# Altium footprint library PcbLib.PcbLib: 34 footprints (part 1 of 3)
Each footprint in its own frame and in the unit in brackets; x right, y up, seen from the top. Pads: shape width x height; smd on the part's side, far side on the other; paste and mask are expansions set on the pad; w line width, h text height; cw(c..) or ccw(c..) is an arc to the next point about the centre after c.
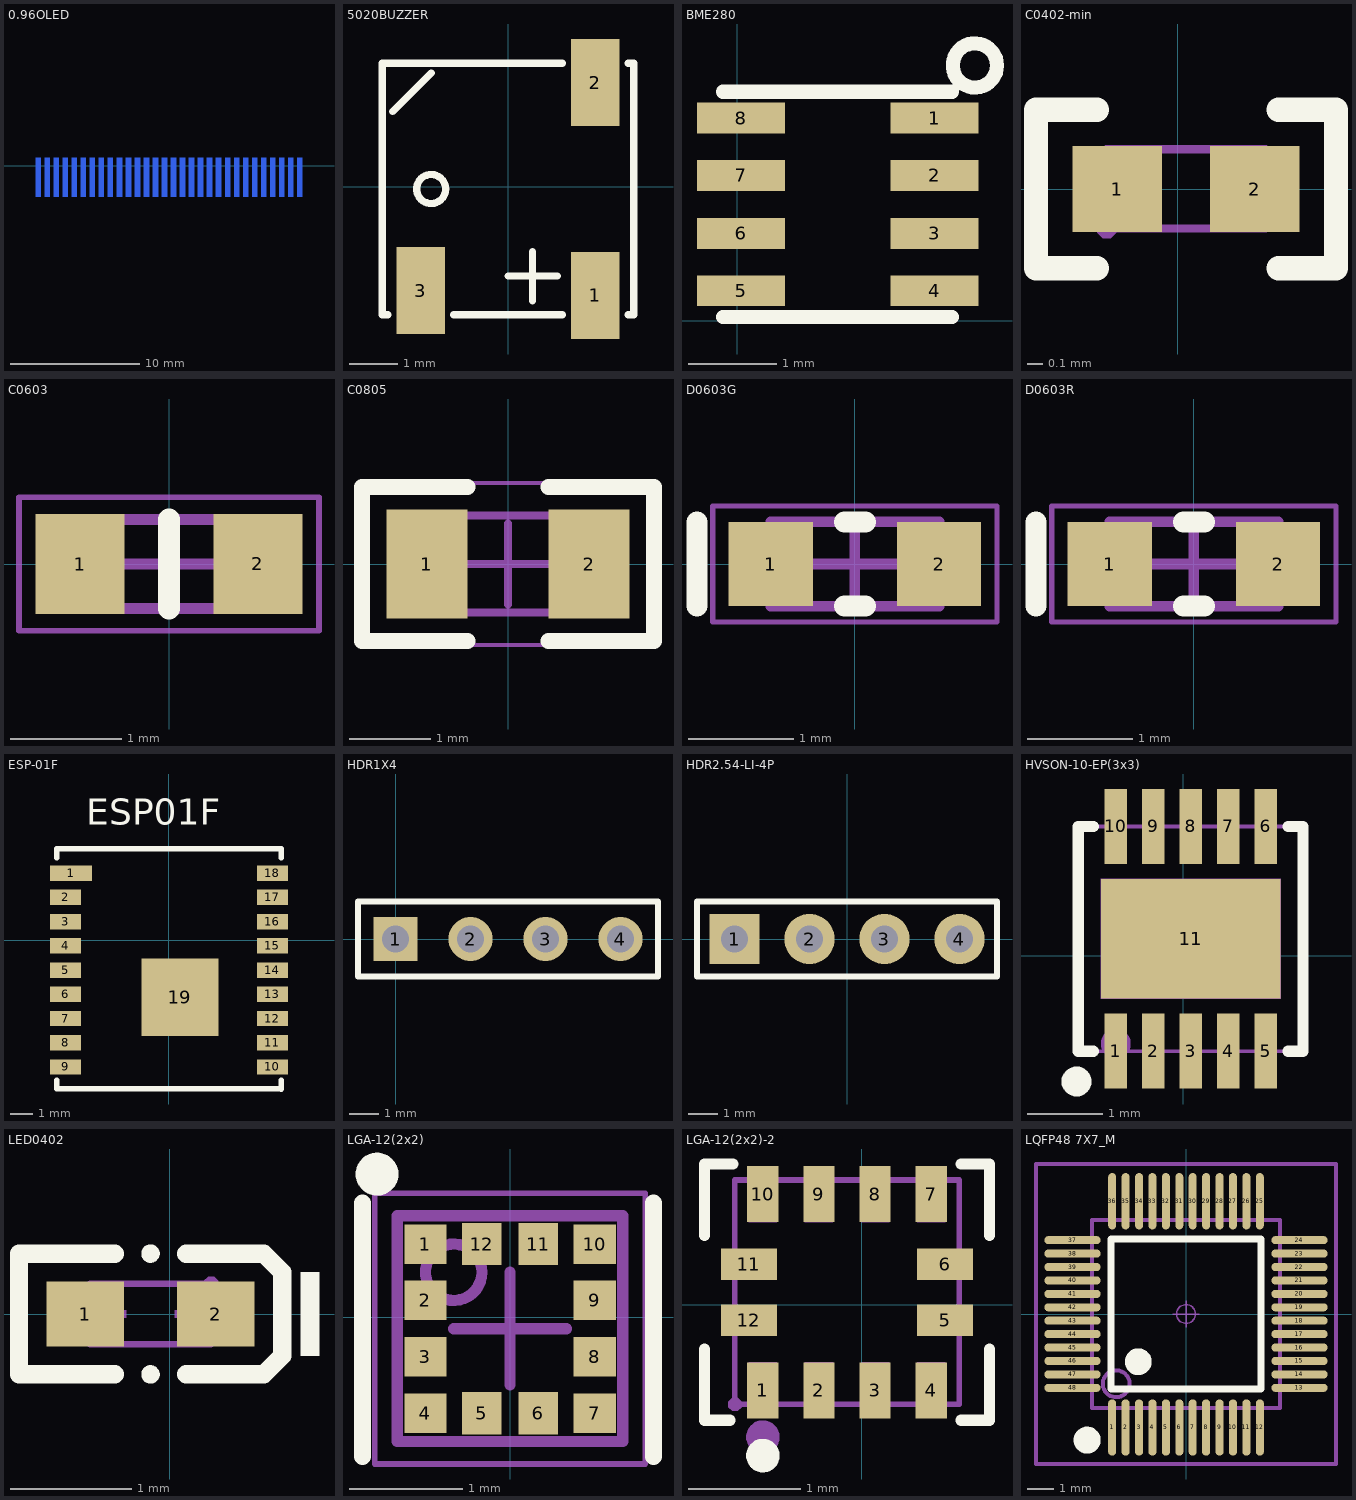
[diagram p0: the footprints below, top view; thin cyan lines are the x and y axes]

## 0.96OLED [mm]
pads (30):
  rect 0.4x3 smd far side: 1(6.35,-0.9) 2(7.05,-0.9) 3(7.75,-0.9) 4(8.45,-0.9) 5(9.15,-0.9) 6(9.85,-0.9) 7(10.55,-0.9) 8(11.25,-0.9) 9(11.95,-0.9) 10(12.65,-0.9) 11(13.35,-0.9) 12(14.05,-0.9) 13(14.75,-0.9) 14(15.45,-0.9) 15(16.15,-0.9) 16(16.85,-0.9) 17(17.55,-0.9) 18(18.25,-0.9) 19(18.95,-0.9) 20(19.65,-0.9) 21(20.35,-0.9) 22(21.05,-0.9) 23(21.75,-0.9) 24(22.45,-0.9) 25(23.15,-0.9) 26(23.85,-0.9) 27(24.55,-0.9) 28(25.25,-0.9) 29(25.95,-0.9) 30(26.65,-0.9)
Bottom Overlay:
  lines w0.127: 5.3,-5.12 5.3,1.2 5.5,1.5 27.5,1.5 27.7,1.2 27.7,-4.97
  text "30" at 27.301,-3.359 h0.8

## 5020BUZZER [mm]
height 1.2
pads (3):
  rect 1x1.8 smd: 1(1.8,-2.25) 2(1.8,2.152) 3(-1.8,-2.151)
Top Overlay:
  circle w0.15: c-1.588,-0.049 r0.3
  lines w0.15: -2.48,-2.649 -2.6,-2.649 -2.6,2.551 -2.4,2.551 1.121,2.551 ; -2.388,1.551 -1.588,2.351 ; -1.121,-2.649 1.121,-2.649 ; 0,-1.849 1.016,-1.849 ; 0.508,-2.357 0.508,-1.341 ; 2.48,-2.649 2.6,-2.649 2.6,2.551 2.48,2.551
3D body "BEEP_5020.STEP": height 2, standoff -0.1, extent -2.6,-2.7 2.6,2.5

## BME280 [mm]
height 1.6
pads (8):
  rect 1x0.351 smd: 1(2.243,2.301) 2(2.243,1.651) 3(2.243,0.991) 4(2.243,0.341) 5(0.043,0.341) 6(0.043,0.991) 7(0.043,1.651) 8(0.043,2.301)
Top Overlay:
  circle w0.16: c2.7,2.9 r0.251
  lines w0.16: -0.16,0.041 2.44,0.041 ; -0.16,2.601 2.44,2.601
3D body "BME280.STEP": height 0.93, standoff 0, extent -0.15,0.05 2.35,2.55

## C0402-min [mm]
pads (2):
  rect 0.566x0.54 smd paste-100 mask+0.051: 1(-0.381,0) 2(0.485,0)
Top Overlay:
  lines w0.152: -0.508,-0.499 -0.892,-0.499 -0.892,0.499 -0.508,0.499 ; 0.635,-0.499 0.996,-0.499 0.996,0.499 0.635,0.499
Top Paste:
  region: 0.187,-0.23 0.187,0.23 0.227,0.27 0.727,0.27 0.767,0.23 0.767,-0.23 0.727,-0.27 0.227,-0.27
  region: -0.083,-0.23 -0.083,0.23 -0.123,0.27 -0.624,0.27 -0.664,0.23 -0.664,-0.23 -0.624,-0.27 -0.123,-0.27
Mechanical 15:
  region: -0.388,-0.25 -0.388,-0.225 -0.423,-0.19 -0.473,-0.19 -0.508,-0.225 -0.508,-0.25 -0.508,-0.275 -0.473,-0.31 -0.423,-0.31 -0.388,-0.275
  region: 0.303,-0.25 0.303,0.25 0.553,0.25 0.553,-0.25
  region: -0.197,0.25 -0.197,-0.25 -0.447,-0.25 -0.447,0.25
  lines w0.051: -0.448,-0.25 -0.448,0.25 0.552,0.25 0.552,-0.25 -0.448,-0.25

## C0603 [mm] "Chip Capacitor, 2-Leads, Body 1.60x0.80mm, IPC Medium Density"
height 0.45
pads (2):
  rect 0.8x0.9 smd: 1(-0.8,0) 2(0.8,0)
Top Overlay:
  lines w0.2: 0,-0.4 0,0.4
Mechanical 13:
  lines w0.1: -0.8,-0.4 0.8,-0.4 0.8,0.4 -0.8,0.4 -0.8,-0.4
Mechanical 15:
  lines w0.05: -1.35,-0.6 1.35,-0.6 1.35,0.6 -1.35,0.6 -1.35,-0.6
  lines w0.1: -0.4,0 0.4,0 ; 0,-0.4 0,0.4
3D body "User Library-CapCeramic_Kemet_0603_1608.STEP": height 0.8, standoff 0, extent -0.8,-0.4 0.8,0.4

## C0805 [mm] "Chip Capacitor, 2-Leads, Body 2.00x1.20mm, IPC Medium Density"
height 1
pads (2):
  rect 1x1.35 smd: 1(-1,0) 2(1,0)
Top Overlay:
  lines w0.2: -0.5,-0.95 -1.8,-0.95 -1.8,0.95 -0.5,0.95 ; 0.5,-0.95 1.8,-0.95 1.8,0.95 0.5,0.95
Mechanical 13:
  lines w0.1: -1,-0.6 -1,0.6 1,0.6 1,-0.6 -1,-0.6
Mechanical 15:
  lines w0.05: -1.85,-1 -1.85,1 1.85,1 1.85,-1 -1.85,-1
  lines w0.1: -0.5,0 0.5,0 ; 0,-0.5 0,0.5
3D body "User Library-CapCeramic_Kemet_0805_2012.STEP": height 0.9, standoff 0, extent -1,-0.625 1,0.625

## D0603G [mm] "Chip LED, 2-Leads, Body 1.60x0.80mm, IPC Medium Density"
height 0.45
pads (2):
  rect 0.8x0.8 smd: 1(-0.8,0) 2(0.8,0)
Top Overlay:
  lines w0.2: -1.5,-0.4 -1.5,0.4 ; -0.1,-0.4 0.1,-0.4 ; -0.1,0.4 0.1,0.4
Mechanical 13:
  lines w0.1: -0.8,-0.4 -0.8,0.4 0.8,0.4 0.8,-0.4 -0.8,-0.4
Mechanical 15:
  lines w0.05: -1.35,-0.55 -1.35,0.55 1.35,0.55 1.35,-0.55 -1.35,-0.55
  lines w0.1: -0.4,0 0.4,0 ; 0,-0.4 0,0.4
3D body "User Library-LED_0603_G.STEP": height 0.6, standoff 0, extent -0.8,-0.4 0.8,0.4

## D0603R [mm] "Chip LED, 2-Leads, Body 1.60x0.80mm, IPC Medium Density"
height 0.45
pads (2):
  rect 0.8x0.8 smd: 1(-0.8,0) 2(0.8,0)
Top Overlay:
  lines w0.2: -1.5,-0.4 -1.5,0.4 ; -0.1,-0.4 0.1,-0.4 ; -0.1,0.4 0.1,0.4
Mechanical 13:
  lines w0.1: -0.8,-0.4 0.8,-0.4 0.8,0.4 -0.8,0.4 -0.8,-0.4
Mechanical 15:
  lines w0.05: -1.35,-0.55 1.35,-0.55 1.35,0.55 -1.35,0.55 -1.35,-0.55
  lines w0.1: -0.4,0 0.4,0 ; 0,-0.4 0,0.4
3D body "User Library-LED_0603_R.STEP": height 0.6, standoff 0, extent -0.8,-0.4 0.8,0.4

## ESP-01F [mm]
pads (19):
  rect 1.9x0.7 smd: 1(-4.445,3.054)
  rect 1.4x0.7 smd: 2(-4.695,1.954) 3(-4.695,0.854) 4(-4.695,-0.246) 5(-4.695,-1.346) 6(-4.695,-2.446) 7(-4.695,-3.546) 8(-4.695,-4.646) 9(-4.695,-5.746) 10(4.695,-5.746) 11(4.695,-4.646) 12(4.695,-3.546) 13(4.695,-2.446) 14(4.695,-1.346) 15(4.695,-0.246) 16(4.695,0.854) 17(4.695,1.954) 18(4.695,3.054)
  rect 3.5x3.5 smd: 19(0.493,-2.579)
Top Overlay:
  lines w0.254: -5.102,-6.743 -5.102,-6.343 ; -5.1,3.754 -5.1,4.154 ; -5.002,-6.743 4.998,-6.743 ; -5,4.154 5,4.154 ; 5.1,-6.746 5.1,-6.346 ; 5.1,3.754 5.1,4.154
  text "ESP01F" at -3.756,4.84 h2.03

## HDR1X4 [mm] "Connector; Header; 4 Position"
height 1.6
pads (4):
  rect 1.5x1.5 hole 0.9: 1(0,0)
  round 1.5 hole 0.9: 2(2.54,0) 3(5.08,0) 4(7.62,0)
Top Overlay:
  lines w0.2: -1.27,-1.27 -1.27,1.27 8.89,1.27 8.89,-1.27 -1.27,-1.27

## HDR2.54-LI-4P [mm] "排针，4脚"
height 0.5
pads (4):
  rect 1.7x1.7 hole 0.9: 1(-3.81,0)
  round 1.7 hole 0.9: 2(-1.27,0) 3(1.27,0) 4(3.81,0)
Top Overlay:
  lines w0.2: -5.08,-1.27 -5.08,1.27 5.08,1.27 5.08,-1.27 -5.08,-1.27
3D body "HDR2.54-1P.STEP": height 8.5, standoff -3, extent -5.08,-1.27 -2.54,1.27
3D body "HDR2.54-1P.STEP": height 8.5, standoff -3, extent -2.54,-1.27 0,1.27
3D body "HDR2.54-1P.STEP": height 8.5, standoff -3, extent 0,-1.27 2.54,1.27
3D body "HDR2.54-1P.STEP": height 8.5, standoff -3, extent 2.54,-1.27 5.08,1.27

## HVSON-10-EP(3x3) [mm] "PCF8563BS"
pads (11):
  rect 0.3x1 smd paste+0 mask+0.05: 1(-0.9,-1.273) 2(-0.4,-1.273) 3(0.1,-1.273) 4(0.6,-1.273) 5(1.1,-1.273) 6(1.1,1.727) 7(0.6,1.727) 8(0.1,1.727) 9(-0.4,1.727) 10(-0.9,1.727)
  rect 2.4x1.6 smd paste+0 mask+0.05: 11(0.1,0.227)
Top Overlay:
  circle w0.2: c-1.424,-1.678 r0.1
  lines w0.15: -1.2,-1.273 -1.4,-1.273 -1.4,1.727 -1.2,1.727 ; 1.4,-1.273 1.6,-1.273 1.6,1.727 1.4,1.727
Mechanical 6:
  circle w0.2: c-0.9,-1.173 r0.1
Mechanical 15:
  region: -1.1,1.027 1.3,1.027 1.3,-0.573 -1.1,-0.573
  region: -1.025,-0.873 -0.775,-0.873 -0.775,-1.273 -1.025,-1.273
  region: -0.525,-0.873 -0.275,-0.873 -0.275,-1.273 -0.525,-1.273
  region: -0.025,-0.873 0.225,-0.873 0.225,-1.273 -0.025,-1.273
  region: 0.475,-0.873 0.725,-0.873 0.725,-1.273 0.475,-1.273
  region: 0.975,-0.873 1.225,-0.873 1.225,-1.273 0.975,-1.273
  region: 0.975,1.727 1.225,1.727 1.225,1.327 0.975,1.327
  region: 0.475,1.727 0.725,1.727 0.725,1.327 0.475,1.327
  region: -0.025,1.727 0.225,1.727 0.225,1.327 -0.025,1.327
  region: -0.525,1.727 -0.275,1.727 -0.275,1.327 -0.525,1.327
  region: -1.025,1.727 -0.775,1.727 -0.775,1.327 -1.025,1.327
  region: -1.34,-1.273 -1.34,-1.248 -1.375,-1.213 -1.425,-1.213 -1.46,-1.248 -1.46,-1.273 -1.46,-1.298 -1.425,-1.333 -1.375,-1.333 -1.34,-1.298
  lines w0.051: -1.4,-1.273 1.6,-1.273 1.6,1.727 -1.4,1.727 -1.4,-1.273

## LED0402 [mm]
pads (2):
  rect 0.636x0.54 smd paste-100 mask+0.051: 1(-0.695,0) 2(0.381,0)
Top Overlay:
  circle w0.076: c-0.157,-0.499 r0.038
  circle w0.076: c-0.157,0.499 r0.038
  region: 1.08,0.346 1.08,-0.346 1.233,-0.346 1.233,0.346
  lines w0.152: -0.453,-0.499 -1.242,-0.499 -1.242,0.499 -0.453,0.499 ; 0.139,-0.499 0.775,-0.499 0.928,-0.346 0.928,0.346 0.775,0.499 0.139,0.499
Top Paste:
  region: 0.041,0.23 0.041,-0.23 0.081,-0.27 0.659,-0.27 0.699,-0.23 0.699,0.23 0.659,0.27 0.081,0.27
  region: -0.355,0.23 -0.355,-0.23 -0.395,-0.27 -0.974,-0.27 -1.014,-0.23 -1.014,0.23 -0.974,0.27 -0.395,0.27
Mechanical 6:
  region: -0.507,0.2 -0.507,-0.2 -0.447,-0.2 -0.447,0.2
  region: -0.597,0.03 -0.597,-0.03 -0.357,-0.03 -0.357,0.03
  region: 0.283,0.03 0.283,-0.03 0.043,-0.03 0.043,0.03
Mechanical 15:
  region: -0.657,0.25 -0.657,-0.25 -0.457,-0.25 -0.457,0.25
  region: 0.343,0.25 0.343,-0.25 0.143,-0.25 0.143,0.25
  region: 0.283,0.25 0.283,0.225 0.318,0.191 0.367,0.191 0.402,0.225 0.403,0.25 0.402,0.274 0.367,0.309 0.318,0.309 0.283,0.274
  lines w0.051: -0.657,-0.25 -0.657,0.25 0.343,0.25 0.343,-0.25 -0.657,-0.25

## LGA-12(2x2) [mm] "BMA423"
pads (12):
  rect 0.375x0.35 smd: 1(-0.75,0.65) 2(-0.75,0.15) 3(-0.75,-0.35) 4(-0.75,-0.85) 7(0.75,-0.85) 8(0.75,-0.35) 9(0.75,0.15) 10(0.75,0.65)
  rect 0.35x0.375 smd: 5(-0.25,-0.85) 6(0.25,-0.85) 11(0.25,0.65) 12(-0.25,0.65)
Top Overlay:
  circle w0.2: c-1.18,1.27 r0.09
  lines w0.15: -1.307,-1.234 -1.307,1.016 ; 1.27,-1.234 1.27,1.016
Mechanical 13:
  circle w0.1: c-0.5,0.4 r0.25
  lines w0.1: -1,-1.1 -1,0.9 1,0.9 1,-1.1 -1,-1.1
Mechanical 15:
  lines w0.05: -1.2,-1.3 1.2,-1.3 1.2,1.1 -1.2,1.1 -1.2,-1.3
  lines w0.1: -0.5,-0.1 0.5,-0.1 ; 0,-0.6 0,0.4
3D body: height 1, standoff 0.05, extent -1,-1.1 1,0.9

## LGA-12(2x2)-2 [mm] "BMA423"
pads (12):
  rect 0.28x0.5 smd: 1(-0.881,-0.762) 2(-0.381,-0.762) 3(0.119,-0.762) 4(0.619,-0.762) 7(0.619,0.988) 8(0.119,0.988) 9(-0.381,0.988) 10(-0.881,0.988)
  rect 0.5x0.28 smd: 5(0.744,-0.137) 6(0.744,0.363) 11(-1.006,0.363) 12(-1.006,-0.137)
Top Overlay:
  circle w0.15: c-0.881,-1.344 r0.075
  lines w0.1: -1.401,-0.395 -1.401,-1.03 -1.175,-1.03 ; -1.401,0.621 -1.401,1.256 -1.147,1.256 ; 0.885,-1.03 1.139,-1.03 1.139,-0.395 ; 0.885,1.256 1.139,1.256 1.139,0.621
Mechanical 6:
  circle w0.15: c-0.881,-1.18 r0.075
Mechanical 15:
  region: -1.071,-0.887 -1.072,-0.863 -1.107,-0.829 -1.155,-0.829 -1.19,-0.863 -1.191,-0.887 -1.19,-0.911 -1.155,-0.945 -1.107,-0.945 -1.072,-0.911
  region: -1.006,-0.512 -0.756,-0.512 -0.756,-0.787 -1.006,-0.787
  region: -0.506,-0.512 -0.256,-0.512 -0.256,-0.787 -0.506,-0.787
  region: -0.006,-0.512 0.244,-0.512 0.244,-0.787 -0.006,-0.787
  region: 0.494,-0.512 0.744,-0.512 0.744,-0.787 0.494,-0.787
  region: 0.494,-0.262 0.494,-0.012 0.769,-0.012 0.769,-0.262
  region: 0.494,0.238 0.494,0.488 0.769,0.488 0.769,0.238
  region: 0.744,0.738 0.494,0.738 0.494,1.013 0.744,1.013
  region: 0.244,0.738 -0.006,0.738 -0.006,1.013 0.244,1.013
  region: -0.256,0.738 -0.506,0.738 -0.506,1.013 -0.256,1.013
  region: -0.756,0.738 -1.006,0.738 -1.006,1.013 -0.756,1.013
  region: -0.756,0.488 -0.756,0.238 -1.031,0.238 -1.031,0.488
  region: -0.756,-0.012 -0.756,-0.262 -1.031,-0.262 -1.031,-0.012
  lines w0.051: -1.131,-0.887 -1.131,1.113 0.869,1.113 0.869,-0.887 -1.131,-0.887

## LQFP48 7X7_M [mm] "48脚，体宽7x7mm，脚距0.5mm"
height 1.6
pads (48):
  oval 0.3x2.1 smd: 1(-2.75,-4.227) 2(-2.25,-4.227) 3(-1.75,-4.227) 4(-1.25,-4.227) 5(-0.75,-4.227) 6(-0.25,-4.227) 7(0.25,-4.227) 8(0.75,-4.227) 9(1.25,-4.227) 10(1.75,-4.227) 11(2.25,-4.227) 12(2.75,-4.227) 25(2.75,4.202) 26(2.25,4.202) 27(1.75,4.202) 28(1.25,4.202) 29(0.75,4.202) 30(0.25,4.202) 31(-0.25,4.202) 32(-0.75,4.202) 33(-1.25,4.202) 34(-1.75,4.202) 35(-2.25,4.202) 36(-2.75,4.202)
  oval 2.1x0.3 smd: 13(4.227,-2.75) 14(4.227,-2.25) 15(4.227,-1.75) 16(4.227,-1.25) 17(4.227,-0.75) 18(4.227,-0.25) 19(4.227,0.25) 20(4.227,0.75) 21(4.227,1.25) 22(4.227,1.75) 23(4.227,2.25) 24(4.227,2.75) 37(-4.227,2.75) 38(-4.227,2.25) 39(-4.227,1.75) 40(-4.227,1.25) 41(-4.227,0.75) 42(-4.227,0.25) 43(-4.227,-0.25) 44(-4.227,-0.75) 45(-4.227,-1.25) 46(-4.227,-1.75) 47(-4.227,-2.25) 48(-4.227,-2.75)
Top Overlay:
  circle w0.508: c-3.683,-4.699 r0.25
  circle w0.5: c-1.778,-1.778 r0.25
  lines w0.254: -2.794,-2.794 -2.794,2.794 2.794,2.794 2.794,-2.794 -2.794,-2.794
Mechanical 13:
  circle w0.15: c-2.6,-2.6 r0.5
  lines w0.15: -3.5,-3.5 3.5,-3.5 3.5,3.5 -3.5,3.5 -3.5,-3.5
Mechanical 15:
  circle w0.05: c0,0 r0.35
  lines w0.05: -0.5,0 0.5,0 ; 0,-0.5 0,0.5
  lines w0.15: -5.588,-5.588 5.588,-5.588 5.588,5.588 -5.588,5.588 -5.588,-5.588
3D body "LQFP48-7x7.STEP": height 1.45, standoff 0, extent -4.503,-4.503 4.503,4.503